# Altium footprint library Flex_LED_1206(3216).PcbLib: 1 footprints
Each footprint in its own frame and in the unit in brackets; x right, y up, seen from the top. Pads: shape width x height; smd on the part's side, far side on the other; paste and mask are expansions set on the pad; w line width, h text height; cw(c..) or ccw(c..) is an arc to the next point about the centre after c.
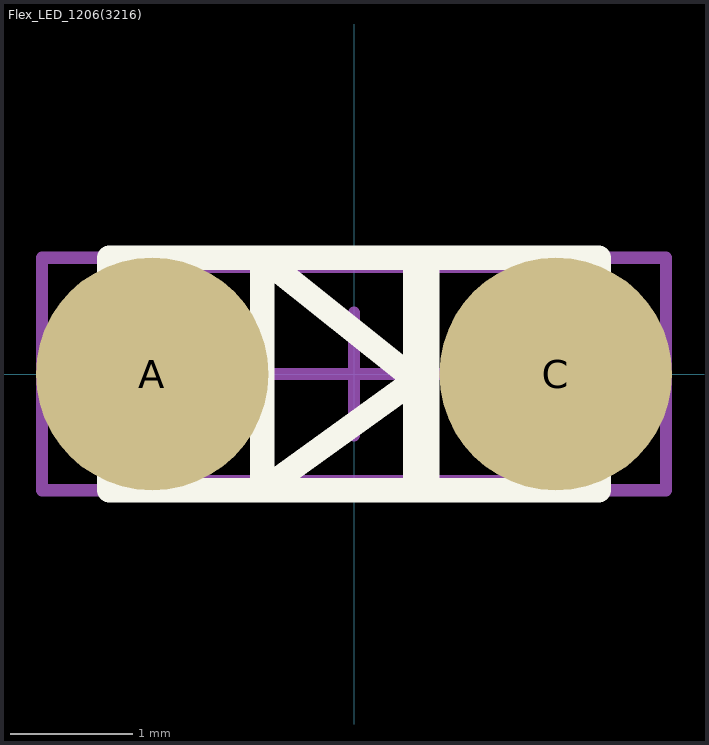
[diagram p0: the footprint, top view; thin cyan lines are the x and y axes]

## Flex_LED_1206(3216) [mm] "Chip Resistor, Body 3.2x1.6mm, Flex"
height 0.71
pads (2):
  round 1.9 smd paste-0.2 mask-0.102: A(-1.65,0) C(1.65,0)
Top Overlay:
  lines w0.2: 0.6,-0.95 0.6,0.95 0.65,0.95 ; 0.65,-0.95 0.5,-0.95 0.5,0.95 0.5,-0.05 ; 0.5,-0.05 -0.75,0.95 -0.75,-0.95 0.5,-0.05 ; -2,-0.95 -2,0.95 2,0.95 2,-0.95 -1.95,-0.95 -2,-0.95
Mechanical 13:
  lines w0.1: -1.675,-0.875 1.675,-0.875 1.675,0.875 -1.675,0.875 -1.675,-0.875
Mechanical 15:
  lines w0.1: -0.75,0 0.75,0 ; -0.5,0 0.5,0 ; 0,-0.5 0,0.5 ; -2.55,-0.95 2.55,-0.95 2.55,0.95 -2.55,0.95 -2.55,-0.95
3D body: height 0.5, standoff 0, extent 1,-0.75 1.65,0.75
3D body: height 0.5, standoff 0, extent -1.65,-0.75 -1,0.75
3D body: height 1.4, standoff 0, extent -1,-0.75 1,0.75